# Altium integrated library wifi.IntLib: 21 symbols
Pins are listed as number, name and electrical type; pins without a type are passive.

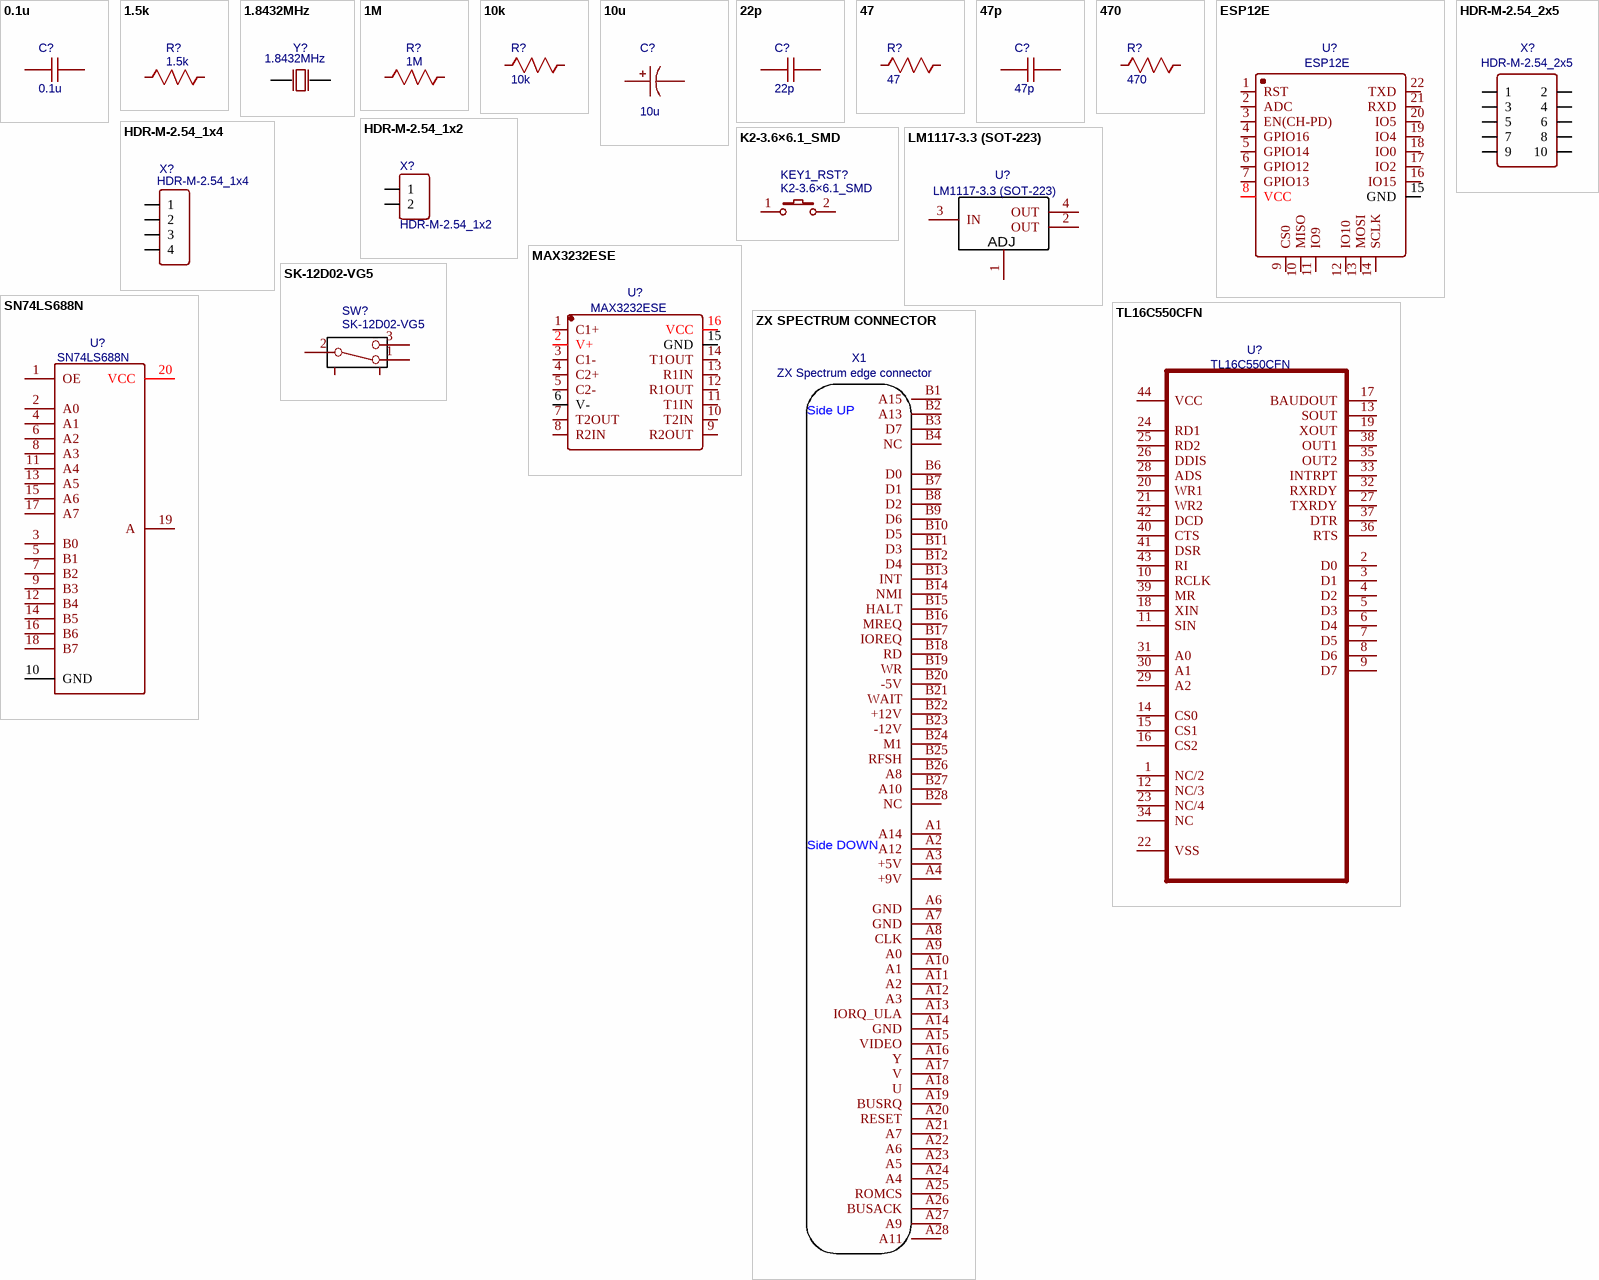
[diagram p0: symbols 0.1u to ZX SPECTRUM CONNECTOR]

## 0.1u
designator C?
nameAlias: Value(F); Contributor: LCEDA_Lib; spicePre: C; spiceSymbolName: C_0805_US
footprint C0805
pins: 1, 2

## 1.5k
designator R?
nameAlias: Value(Ω); Contributor: LCEDA_Lib; spicePre: R; spiceSymbolName: R_0805_US
footprint R0805
pins: 1, 2

## 1.8432MHz
designator Y?
BOM_Manufacturer: ValuePro; BOM_Manufacturer Part: X49UD3579MSD2SC; nameAlias: Frequency; BOM_Supplier: LCSC; BOM_Supplier Part: C36564; spicePre: X; spiceSymbolName: X49UD3579MSD2SC
footprint OSC-TH_L10.0-W4.5-P5.00
pins: 1 OSC1, 2 OSC2

## 1M
designator R?
nameAlias: Value(Ω); Contributor: LCEDA_Lib; spicePre: R; spiceSymbolName: R_0805_US
footprint R0805
pins: 1, 2

## 10k
designator R?
nameAlias: Value(Ω); Contributor: LCEDA_Lib; spicePre: R; spiceSymbolName: R_0805_US
footprint R0805
pins: 1, 2

## 10u
designator C?
nameAlias: Value(F); Contributor: LCEDA_Lib; spicePre: C; spiceSymbolName: C_Tan_SMD_A_US
footprint CASE-A_3216
pins: 1, 2

## 22p
designator C?
nameAlias: Value(F); Contributor: LCEDA_Lib; spicePre: C; spiceSymbolName: C_0805_US
footprint C0805
pins: 1, 2

## 47
designator R?
nameAlias: Value(Ω); Contributor: LCEDA_Lib; spicePre: R; spiceSymbolName: R_0805_US
footprint R0805
pins: 1, 2

## 47p
designator C?
nameAlias: Value(F); Contributor: LCEDA_Lib; spicePre: C; spiceSymbolName: C_0805_US
footprint C0805
pins: 1, 2

## 470
designator R?
nameAlias: Value(Ω); Contributor: LCEDA_Lib; spicePre: R; spiceSymbolName: R_0805_US
footprint R0805
pins: 1, 2

## ESP12E
designator U?
Contributor: cpu76239; spicePre: U; spiceSymbolName: ESP12E/F
footprint ESP12E/F
pins: 1 RST, 2 ADC, 3 EN(CH-PD), 4 GPIO16, 5 GPIO14, 6 GPIO12, 7 GPIO13, 8 VCC, 9 CS0, 10 MISO, 11 IO9, 12 IO10, 13 MOSI, 14 SCLK, 15 GND, 16 IO15, 17 IO2, 18 IO0, 19 IO4, 20 IO5, 21 RXD, 22 TXD

## HDR-M-2.54_1x2
designator X?
Contributor: LCEDA_Lib; BOM_Supplier Part: C124375; BOM_Supplier: LCSC; spicePre: J; spiceSymbolName: HDR-M-2.54_1x2
footprint HDR-M-2.54_1X2
pins: 1, 2

## HDR-M-2.54_1x4
designator X?
Contributor: LCEDA_Lib; BOM_Supplier Part: C124378; BOM_Supplier: LCSC; spicePre: J; spiceSymbolName: HDR-M-2.54_1x4
footprint HDR-M-2.54_1X4
pins: 1, 2, 3, 4

## HDR-M-2.54_2x5
designator X?
Contributor: LCEDA_Lib; BOM_Supplier Part: C178292; BOM_Supplier: LCSC; spicePre: J; spiceSymbolName: HDR-M-2.54_2x5
footprint HDR-M-2.54_2X5
pins: 1, 2, 3, 4, 5, 6, 7, 8, 9, 10

## K2-3.6×6.1_SMD
designator KEY1_RST?
BOM_Manufacturer Part: K2-1107ST-A4SW-06; Contributor: LCEDA_Lib; 制造商: 韩国韩荣; BOM_Supplier Part: C118141; BOM_Supplier: LCSC; spicePre: K; spiceSymbolName: K2-3.6×6.1_SMD
footprint KEY-SMD_2P-L6.2-W3.6-LS8.0
pins: 1, 2

## LM1117-3.3 (SOT-223)
designator U?
BOM_Manufacturer: UTC; BOM_Manufacturer Part: LM317G-AA3-R; BOM_Paste Type: expand; Contributor: LCEDA_Lib; BOM_Supplier: LCSC; BOM_Supplier Part: C19651; spicePre: U; spiceSymbolName: LM317(SOT-223)
footprint SOT-223-3_L6.5-W3.4-P2.30-LS7.0-BR
pins: 1 ADJ, 2 OUT, 3 IN, 4 OUT

## MAX3232ESE
designator U?
BOM_Manufacturer: UMW(友台半导体); Contributor: LCSC; BOM_Supplier: LCSC; BOM_Supplier Part: C2904738; BOM_Manufacturer Part: MAX3232ESE; BOM_JLCPCB Part Class: Extended Part; spicePre: U; spiceSymbolName: MAX3232ESE
footprint SOP-16_L9.9-W3.9-P1.27-LS6.0-BL
pins: 1 C1+, 2 V+, 3 C1-, 4 C2+, 5 C2-, 6 V-, 7 T2OUT, 8 R2IN, 9 R2OUT, 10 T2IN, 11 T1IN, 12 R1OUT, 13 R1IN, 14 T1OUT, 15 GND, 16 VCC

## SK-12D02-VG5
designator SW?
BOM_Manufacturer: Rectangular Connectors - Contacts; Contributor: LCSC; BOM_Supplier: LCSC; BOM_Supplier Part: C136722; BOM_Manufacturer Part: SK-12D02-VG5; spicePre: S; spiceSymbolName: SK-12D02-VG5
footprint SW-TH_SK-12D02VG3
pins: 1, 2, 3, 4, 5

## SN74LS688N
designator U?
spicePre: U; spiceSymbolName: SN74LS688N
footprint DIP20
pins: 1 OE, 2 A0, 3 B0, 4 A1, 5 B1, 6 A2, 7 B2, 8 A3, 9 B3, 10 GND, 11 A4, 12 B4, 13 A5, 14 B5, 15 A6, 16 B6, 17 A7, 18 B7, 19 A, 20 VCC

## TL16C550CFN
designator U?
spicePre: U; spiceSymbolName: TL16C550CFN
footprint PLCC-44
pins: 1 NC/2, 2 D0, 3 D1, 4 D2, 5 D3, 6 D4, 7 D5, 8 D6, 9 D7, 10 RCLK, 11 SIN, 12 NC/3, 13 SOUT, 14 CS0, 15 CS1, 16 CS2, 17 BAUDOUT, 18 XIN, 19 XOUT, 20 WR1, 21 WR2, 22 VSS, 23 NC/4, 24 RD1, 25 RD2, 26 DDIS, 27 TXRDY, 28 ADS, 29 A2, 30 A1, 31 A0, 32 RXRDY, 33 INTRPT, 34 NC, 35 OUT2, 36 RTS, 37 DTR, 38 OUT1, 39 MR, 40 CTS, 41 DSR, 42 DCD, 43 RI, 44 VCC

## ZX SPECTRUM CONNECTOR
designator X?  (value not drawn)
Contributor: cliff1024; spicePre: U; spiceSymbolName: ZX SPECTRUM CONNECTOR
footprint ZX SPECTRUM CONNECTOR
pins: A1 A14, A2 A12, A3 +5V, A4 +9V, A6 GND, A7 GND, A8 CLK, A9 A0, A10 A1, A11 A2, A12 A3, A13 IORQ_ULA, A14 GND, A15 VIDEO, A16 Y, A17 V, A18 U, A19 BUSRQ, A20 RESET, A21 A7, A22 A6, A23 A5, A24 A4, A25 ROMCS, A26 BUSACK, A27 A9, A28 A11, B1 A15, B2 A13, B3 D7, B4 NC, B6 D0, B7 D1, B8 D2, B9 D6, B10 D5, B11 D3, B12 D4, B13 INT, B14 NMI, B15 HALT, B16 MREQ, B17 IOREQ, B18 RD, B19 WR, B20 -5V, B21 WAIT, B22 +12V, B23 -12V, B24 M1, B25 RFSH, B26 A8, B27 A10, B28 NC
text: X1; ZX Spectrum edge connector; Side UP; Side DOWN